# Altium schematic symbol library Sensor.SchLib: 15 symbols
Pins are listed as number, name and electrical type; pins without a type are passive.

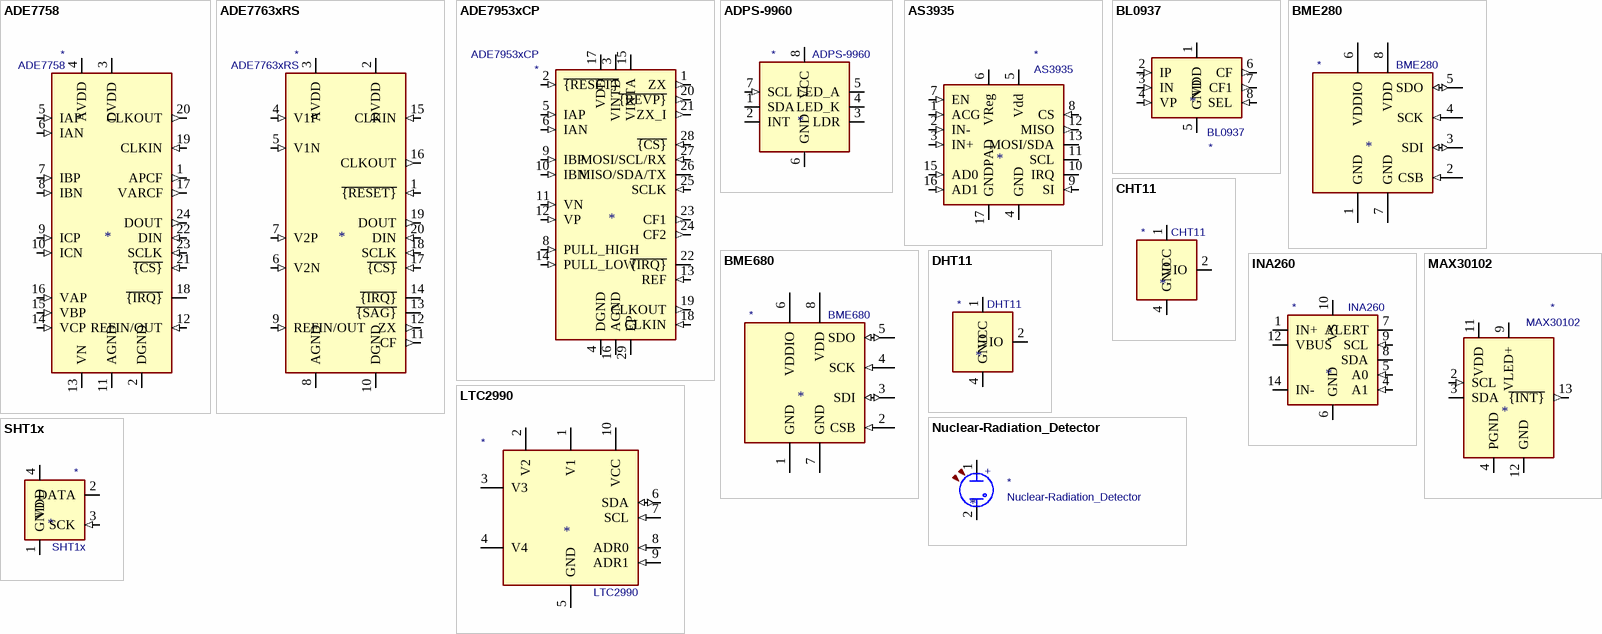
[diagram p0: symbols ADE7758 to SHT1x]

## ADE7758
designator *  value ADE7758
ki_keywords: Energy Metering; ki_description: Poly Phase Multifunction Energy Metering, SO-24; ki_fp_filters: SOIC*7.5x15.4mm*P1.27mm*; Footprint: Package_SO:SOIC-24W_7.5x15.4mm_P1.27mm; Supplier: https://www.analog.com/media/en/technical-documentation/data-sheets/ADE7758.pdf
footprint SOIC-24W_7.5x15.4mm_P1.27mm
pins: 1 APCF (out), 2 DGND (power), 3 DVDD (power), 4 AVDD (power), 5 IAP (in), 6 IAN (in), 7 IBP (in), 8 IBN (in), 9 ICP (in), 10 ICN (in), 11 AGND (power), 12 REFIN/OUT (in), 13 VN (power), 14 VCP (in), 15 VBP (in), 16 VAP (in), 17 VARCF (out), 18 ~{{IRQ}} (oc), 19 CLKIN (in), 20 CLKOUT (out), 21 ~{{CS}} (in), 22 DIN (in), 23 SCLK (in), 24 DOUT (out)

## ADE7763xRS
designator *  value ADE7763xRS
ki_keywords: Energy Metering; ki_description: Single-Phase Active and Apparent Energy Metering, SSOP-20; ki_fp_filters: SSOP*5.3x7.2mm*P0.65mm*; Footprint: Package_SO:SSOP-20_5.3x7.2mm_P0.65mm; Supplier: https://www.analog.com/media/en/technical-documentation/data-sheets/ADE7763.pdf
footprint SSOP-20_5.3x7.2mm_P0.65mm
pins: 1 ~{{RESET}} (in), 2 DVDD (power), 3 AVDD (power), 4 V1P (in), 5 V1N (in), 6 V2N (in), 7 V2P (in), 8 AGND (power), 9 REFIN/OUT (in), 10 DGND (power), 11 CF (out), 12 ZX (out), 13 ~{{SAG}} (oc), 14 ~{{IRQ}} (oc), 15 CLKIN (in), 16 CLKOUT (out), 17 ~{{CS}} (in), 18 SCLK (in), 19 DOUT (out), 20 DIN (in)

## ADE7953xCP
designator *  value ADE7953xCP
ki_keywords: Energy Metering; ki_description: Single Phase Multifunction Energy Metering with Neutral Current Measurement, LFCSP-28; ki_fp_filters: LFCSP*1EP*5x5mm*P0.5mm*; Footprint: Package_CSP:LFCSP-28-1EP_5x5mm_P0.5mm_EP3.14x3.14mm; Supplier: https://www.analog.com/media/en/technical-documentation/data-sheets/ADE7953.pdf
footprint LFCSP-28-1EP_5x5mm_P0.5mm_EP3.14x3.14mm
pins: 1 ZX (out), 2 ~{{RESET}} (in), 3 VINTD (power), 4 DGND (power), 5 IAP (in), 6 IAN (in), 7 PULL_HIGH (in) hidden, 8 PULL_HIGH (in), 9 IBP (in), 10 IBN (in), 11 VN (in), 12 VP (in), 13 REF (in), 14 PULL_LOW (in), 15 VINTA (power), 16 AGND (power), 17 VDD (power), 18 CLKIN (in), 19 CLKOUT (out), 20 ~{{REVP}} (out), 21 ZX_I (out), 22 ~{{IRQ}} (oc), 23 CF1 (out), 24 CF2 (out), 25 SCLK (in), 26 MISO/SDA/TX (io), 27 MOSI/SCL/RX (in), 28 ~{{CS}} (in), 29 EP

## ADPS-9960
designator *  value ADPS-9960
ki_keywords: sensor gesture light rgb; ki_description: Digital Proximity, Ambient Light, RGB and Gesture Sensor; ki_fp_filters: Avago?ADPS?9960*; Footprint: Sensor:Avago_ADPS-9960; Supplier: https://docs.broadcom.com/doc/AV02-4191EN
footprint Avago_ADPS-9960
pins: 1 SDA (io), 2 INT (oc), 3 LDR, 4 LED_K, 5 LED_A, 6 GND (power), 7 SCL (in), 8 VCC (power)

## AS3935
designator *  value AS3935
ki_keywords: lightning sensor; ki_description: Programmable fully integrated Lightning Sensor IC; ki_fp_filters: *MLPQ*16*1EP*4x4mm*P0.65mm*; Footprint: Package_DFN_QFN:MLPQ-16-1EP_4x4mm_P0.65mm_EP2.8x2.8mm; Supplier: https://www.embeddedadventures.com/datasheets/AS3935_Datasheet_EN_v2.pdf
footprint MLPQ-16-1EP_4x4mm_P0.65mm_EP2.8x2.8mm
pins: 1 ACG (in), 2 IN- (in), 3 IN+ (in), 4 GND (power), 5 Vdd (power), 6 VReg, 7 EN (in), 8 CS (in), 9 SI (in), 10 IRQ (io), 11 SCL (io), 12 MISO (out), 13 MOSI/SDA (io), 15 AD0 (in), 16 AD1 (in), 17 GNDPAD (power)

## BL0937
designator *  value BL0937
ki_keywords: current sensor; ki_description: Single Phase Energy Meter IC with Integrated Oscillator, SOP-8; ki_fp_filters: SOP*3.9x4.9mm*P1.27mm*; Footprint: Package_SO:SOP-8_3.9x4.9mm_P1.27mm; Supplier: http://www.belling.com.cn/media/file_object/bel_product/BL0937/datasheet/BL0937_V1.02_en.pdf
footprint SOP-8_3.9x4.9mm_P1.27mm
pins: 1 VDD (power), 2 IP (in), 3 IN (in), 4 VP (in), 5 GND (power), 6 CF (out), 7 CF1 (out), 8 SEL (in)

## BME280
designator *  value BME280
ki_keywords: Bosch pressure humidity temperature environment environmental measurement digital; ki_description: 3-in-1 sensor, humidity, pressure, temperature, I2C and SPI interface, 1.71-3.6V, LGA-8; ki_fp_filters: *LGA*2.5x2.5mm*P0.65mm*Clockwise*; Footprint: Package_LGA:Bosch_LGA-8_2.5x2.5mm_P0.65mm_ClockwisePinNumbering; Supplier: https://ae-bst.resource.bosch.com/media/_tech/media/datasheets/BST-BME280-DS002.pdf
footprint Bosch_LGA-8_2.5x2.5mm_P0.65mm_ClockwisePinNumbering
pins: 1 GND (power), 2 CSB (in), 3 SDI (io), 4 SCK (in), 5 SDO (io), 6 VDDIO (power), 7 GND (power), 8 VDD (power)

## BME680
designator *  value BME680
ki_keywords: Bosch gas pressure humidity temperature environment environmental measurement digital; ki_description: 4-in-1 sensor, gas, humidity, pressure, temperature, I2C and SPI interface, 1.71-3.6V, LGA-8; ki_fp_filters: *LGA*3x3mm*P0.8mm*Clockwise*; Footprint: Package_LGA:Bosch_LGA-8_3x3mm_P0.8mm_ClockwisePinNumbering; Supplier: https://ae-bst.resource.bosch.com/media/_tech/media/datasheets/BST-BME680-DS001.pdf
footprint Bosch_LGA-8_3x3mm_P0.8mm_ClockwisePinNumbering
pins: 1 GND (power), 2 CSB (in), 3 SDI (io), 4 SCK (in), 5 SDO (io), 6 VDDIO (power), 7 GND (power), 8 VDD (power)

## CHT11
designator *  value CHT11
ki_keywords: Digital temperature humidity sensor; ki_description: Temperature and humidity module; ki_fp_filters: Aosong*DHT11*5.5x12.0*P2.54mm*; Footprint: Sensor:Aosong_DHT11_5.5x12.0_P2.54mm; Supplier: http://aosong.com/en/products-21.html
footprint Aosong_DHT11_5.5x12.0_P2.54mm
pins: 1 VCC (power), 2 IO (io), 3 NC (in) hidden, 4 GND (power)

## DHT11
designator *  value DHT11
ki_keywords: Digital temperature humidity sensor; ki_description: Temperature and humidity module; ki_fp_filters: Aosong*DHT11*5.5x12.0*P2.54mm*; Footprint: Sensor:Aosong_DHT11_5.5x12.0_P2.54mm; Supplier: http://akizukidenshi.com/download/ds/aosong/DHT11.pdf
footprint Aosong_DHT11_5.5x12.0_P2.54mm
pins: 1 VCC (power), 2 IO (io), 3 NC (in) hidden, 4 GND (power)

## INA260
designator *  value INA260
ki_keywords: Current/power/voltage monitor; ki_description: Current/power/voltage monitor with Integrated 2mΩ Shunt Resistor, 2.7V - 5.5V, I2C, TSSOP-16; ki_fp_filters: TSSOP*4.4x5mm*P0.65mm*; Footprint: Package_SO:TSSOP-16_4.4x5mm_P0.65mm; Supplier: http://www.ti.com/lit/ds/symlink/ina260.pdf
footprint TSSOP-16_4.4x5mm_P0.65mm
pins: 1 IN+, 2 IN+ hidden, 3 IN+ hidden, 4 A1 (in), 5 A0 (in), 6 GND (power), 7 ALERT (oc), 8 SDA (io), 9 SCL (in), 10 VS (power), 11 GND hidden, 12 VBUS, 13 NC (in) hidden, 14 IN-, 15 IN- hidden, 16 IN- hidden

## LTC2990
designator *  value LTC2990
ki_keywords: Temperature Voltage Current Monitor I2C AFE; ki_description: Temperature Voltage and Current Monitor, I2C Interface, MSOP-10; ki_fp_filters: MSOP*3x3mm*P0.5mm*; Footprint: Package_SO:MSOP-10_3x3mm_P0.5mm; Supplier: https://www.analog.com/media/en/technical-documentation/data-sheets/ltc2990.pdf
footprint MSOP-10_3x3mm_P0.5mm
pins: 1 V1, 2 V2, 3 V3, 4 V4, 5 GND (power), 6 SDA (io), 7 SCL (in), 8 ADR0 (in), 9 ADR1 (in), 10 VCC (power)

## MAX30102
designator *  value MAX30102
ki_keywords: Heart Rate; ki_description: Heart Rate Sensor, 14-OLGA; ki_fp_filters: Maxim*OLGA*3.3x5.6mm*P0.8mm*; Footprint: OptoDevice:Maxim_OLGA-14_3.3x5.6mm_P0.8mm; Supplier: https://datasheets.maximintegrated.com/en/ds/MAX30102.pdf
footprint Maxim_OLGA-14_3.3x5.6mm_P0.8mm
pins: 1 NC (in) hidden, 2 SCL (in), 3 SDA (io), 4 PGND (power), 5 NC (in) hidden, 6 NC (in) hidden, 7 NC (in) hidden, 8 NC (in) hidden, 9 VLED+ (power), 10 VLED+ hidden, 11 VDD (power), 12 GND (power), 13 ~{{INT}} (out), 14 NC (in) hidden

## Nuclear-Radiation_Detector
designator *  value Nuclear-Radiation_Detector
ki_keywords: nuclear ionising radiation sensor geiger mueller muller tube neutron counter ionization chamber; ki_description: Generic radiation detector; Supplier: ~
pins: 1, 2
text: +

## SHT1x
designator *  value SHT1x
ki_keywords: digital temperature humidity sensor; ki_description: Temperature and humidity module; ki_fp_filters: SHT1x*; Footprint: Sensor:SHT1x; Supplier: https://www.sensirion.com/fileadmin/user_upload/customers/sensirion/Dokumente/0_Datasheets/Humidity/Sensirion_Humidity_Sensors_SHT1x_Datasheet.pdf
footprint SHT1x
pins: 1 GND (power), 2 DATA (io), 3 SCK (in), 4 VDD (power)